# EAGLE library part W2RV005RM (library Sparky)
Constant Current IC for Driving Full Color LED
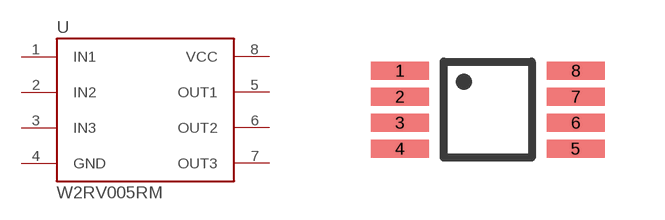
[diagram p8: symbol with the pads of MSOP8; footprint MSOP8]

Designator prefix -

## W2RV005RM  [MSOP8]
1  IN1  in
2  IN2  in
3  IN3  in
4  GND
5  OUT1  out
6  OUT2  out
7  OUT3  out
8  VCC

## Footprint MSOP8 (pad centres in mm)
Micro Small Outline Package
smd 1.45 x 0.45: 1 -2.2,0.975; 2 -2.2,0.325; 3 -2.2,-0.325; 4 -2.2,-0.975; 5 2.2,-0.975; 6 2.2,-0.325; 7 2.2,0.325; 8 2.2,0.975